# Altium schematic symbol library Analog Devices Amplifiers and Linear Comparators.SchLib: 160 symbols (part 9 of 9)
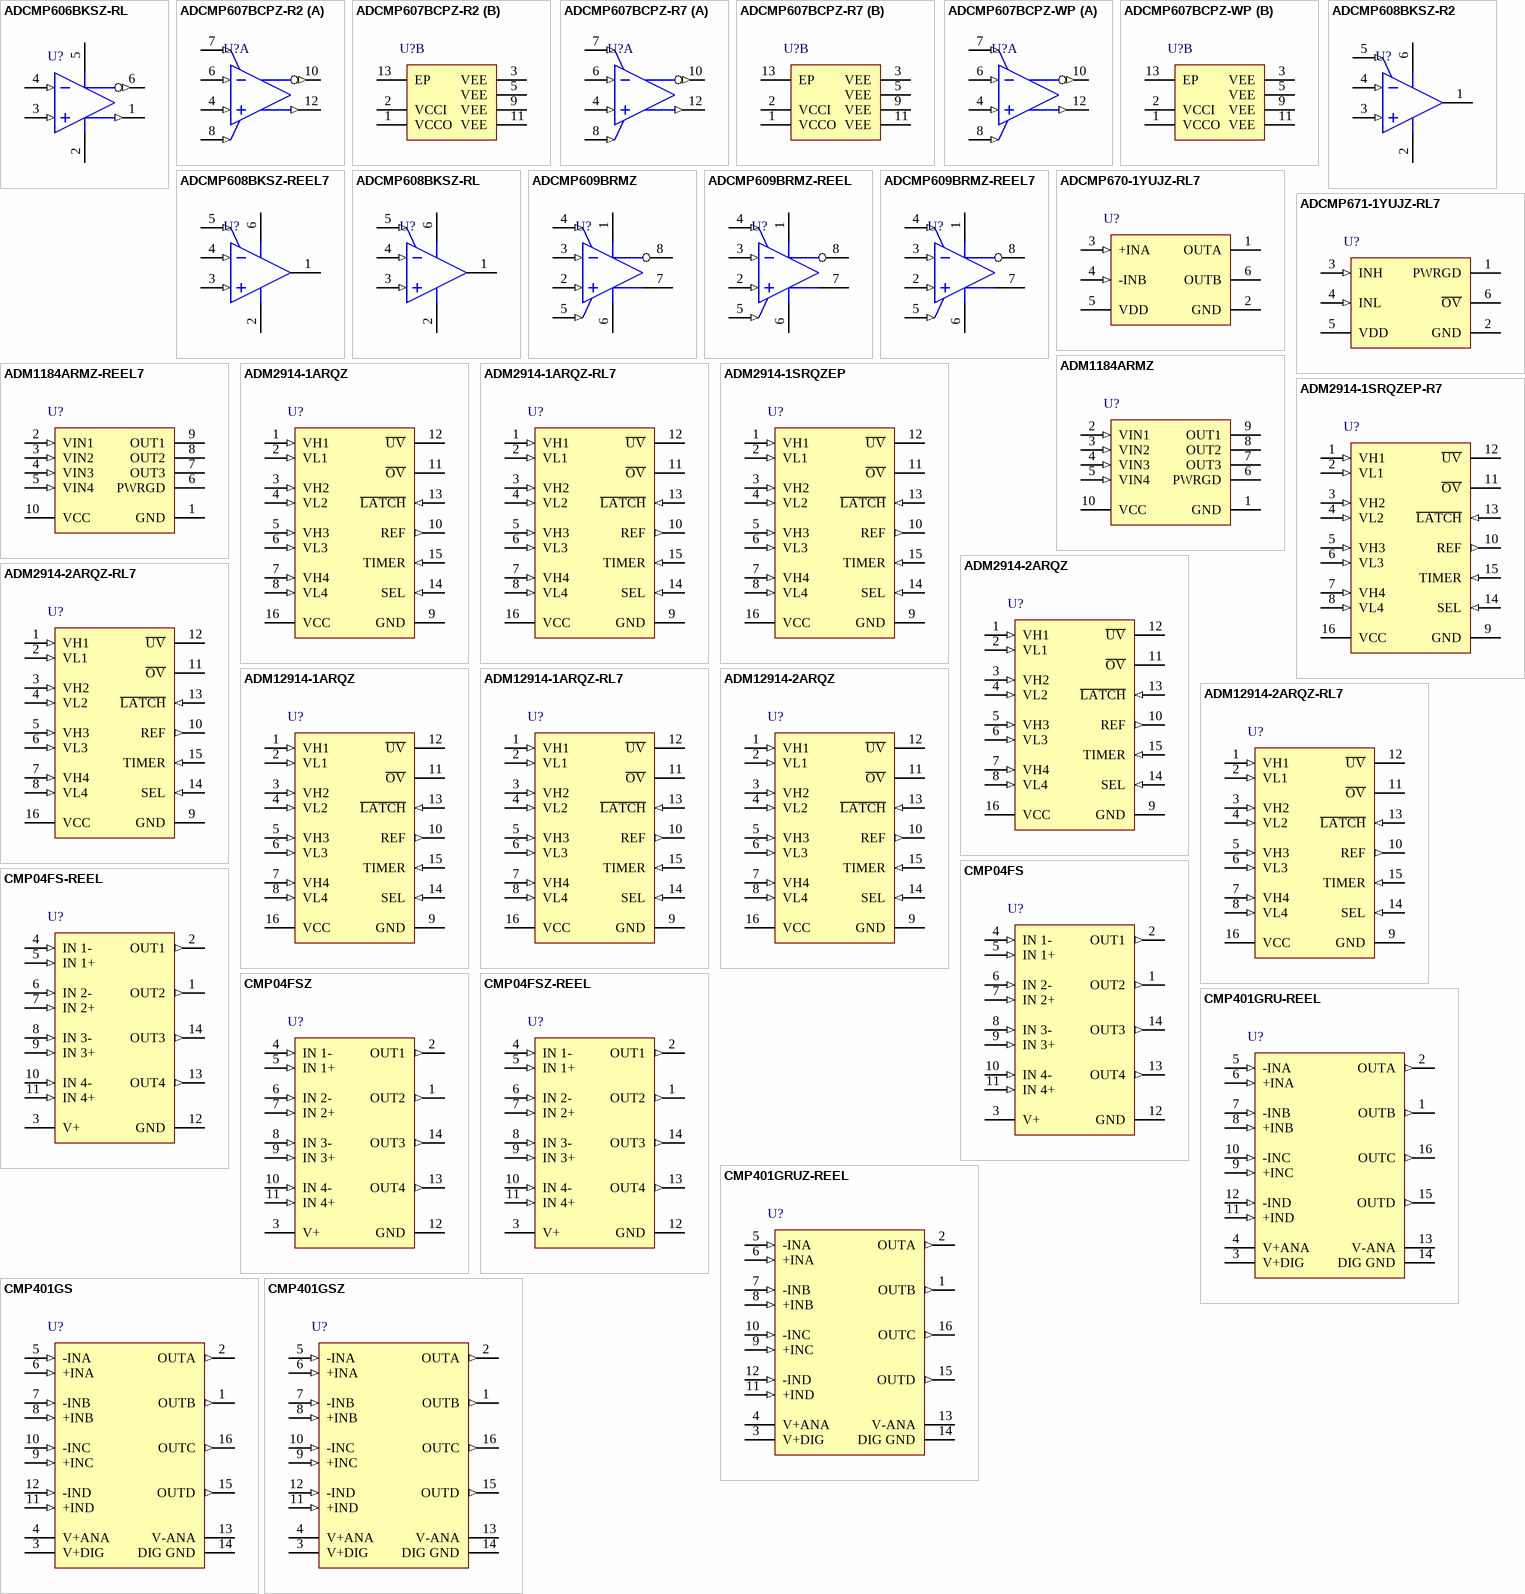
[diagram p15: symbols ADCMP606BKSZ-RL to CMP401GSZ]

## ADM2914-2ARQZ
designator U?
Quad UV / OV Positive / Negative Voltage Supervisor, 125 ns Delay, Industrial, 16-pin SOP (RQ-16), Tube; Manufacturer: Analog Devices; PartNumber: ADM2914-2ARQZ; Input Range (V): 0 to VCC; Internal Reference: Yes; Supply Current: 62uA; Voltage Supply (V): 2.3 to Shunt; DatasheetVersion: Rev. B; PackageVersion: Aug-05; PackageReference: RQ-16; PackageDescription: 16-Pin Shrink Small Outline Package, Body 4.9 x 3.9 mm, Pitch 0.64 mm; Supplier 1: Digi-Key; Supplier Part Number 1: ADM2914-2ARQZ-ND; Supplier 2: Farnell; Supplier Part Number 2: 2376989; Supplier 3: Farnell; Supplier Part Number 3: 1761013; Supplier 4: Mouser; Supplier Part Number 4: 584-ADM2914-2ARQZ; Packing: Tube; Mounting Technology: Surface Mount; Code_JEDEC: MO-137-AB; ComponentLink1Description: Manufacturer URL; ComponentLink1URL: http://www.analog.com/en/index.html; ComponentLink2Description: Datasheet; ComponentLink2URL: http://www.analog.com/static/imported-files/data_sheets/ADM2914.pdf; ComponentLink3Description: Package Specification; ComponentLink3URL: http://www.analog.com/static/imported-files/packages/5595549651201762937RQ_16.pdf; ComponentLink4Description: URL Link1; ComponentLink4URL: Product URL:http://www.analog.com/en/special-linear-functions/comparators/adm2914/products/product.html
footprint ADI-RQ-16_N (SOP, 16-Leads, Body 4.9x3.9mm, Pitch 0.64mm, IPC Medium Density)
footprint ADI-RQ-16_L (SOP, 16-Leads, Body 4.9x3.9mm, Pitch 0.64mm, IPC High Density)
footprint ADI-RQ-16_M (SOP, 16-Leads, Body 4.9x3.9mm, Pitch 0.64mm, IPC Low Density)
pins: 1 VH1 (in) "Voltage High Input 1. If the voltage monitored by VH1 or VH2 drops below 0.5 V, an undervoltage condition is detected. Connect to VCC when not in use.", 2 VL1 (in) "Voltage Low Input 1. If the voltage monitored by VL1 or VL2 rises above 0.5 V, an overvoltage condition is detected. Tie to GND when not in use.", 3 VH2 (in) "Voltage High Input 2. If the voltage monitored by VH1 or VH2 drops below 0.5 V, an undervoltage condition is detected. Connect to VCC when not in use.", 4 VL2 (in) "Voltage Low Input 2. If the voltage monitored by VL1 or VL2 rises above 0.5 V, an overvoltage condition is detected. Tie to GND when not in use.", 5 VH3 (in) "Voltage High Input 3. The polarity of these inputs is determined by the state of the SEL pin (see Table 5). When the monitored input is configured as a positive voltage and the voltage monitored by VH3 or VH4 drops below 0.5 (See Datasheet)", 6 VL3 (in) "Voltage Low Input 3. The polarity of these inputs is determined by the state of the SEL pin (see Table 5). When the monitored input is configured as a positive voltage and the voltage monitored by VL3 or VL4 rises above 0.5 (See Datasheet)", 7 VH4 (in) "Voltage High Input 4. The polarity of these inputs is determined by the state of the SEL pin (see Table 5). When the monitored input is configured as a positive voltage and the voltage monitored by VH3 or VH4 drops below 0.5 (See Datasheet)", 8 VL4 (in) "Voltage Low Input 4. The polarity of these inputs is determined by the state of the SEL pin (see Table 5). When the monitored input is configured as a positive voltage and the voltage monitored by VL3 or VL4 rises above 0.5 (See Datasheet)", 9 GND (power) "Device Ground.", 10 REF (out) "Buffered Reference Output. This pin is a 1 V reference that is used as an offset when monitoring negative voltages. This pin can source or sink 1 mA, and drive loads up to 1 nF. Larger capacitive loads may lead to (See Datasheet)", 11 ~{OV} (oc) "Overvoltage Reset Output. O\V\ is asserted low if a negative polarity input voltage drops below its associated threshold or if a positive polarity input voltage exceeds its threshold. The ADM2914-1 allows O\V\ to be latched (See Datasheet)", 12 ~{UV} (oc) "Undervoltage Reset Output. U\V\ is asserted low if a negative polarity input voltage exceeds its associated threshold or if a positive polarity input voltage drops below its threshold. U\V\ is held low for an adjustable (See Datasheet)", 13 ~{LATCH} (in) "O\V\ Latch Bypass Input/Clear Pin. When pulled high, the O\V\ latch is cleared. When held high, the O\V\output has the same delay and output characteristics as the U\V\ output. When pulled low, the O\V\ output is latched (See Datasheet)", 14 SEL (in) "Input Polarity Select. This three-state input pin allows the polarity of VH3, VL3, VH4, and VL4 to be configured. Connect to VCC or GND, or leave open to select one of three possible input polarity configurations (see Table (See Datasheet)", 15 TIMER (in) "Adjustable Reset Delay Timer. Connect an external capacitor to the TIMER pin to program the reset timeout delay. Refer to Figure 15 in the Typical Performance Characteristics section. Connect this pin to VCC to bypass the (See Datasheet)", 16 VCC (power) "Supply Voltage. VCC operates as a direct supply for voltages up to 6 V. For voltages greater than 6 V, it operates as a shunt regulator. A dropper resistor must be used in this configuration to limit the current to less than (See Datasheet)"

## ADM2914-2ARQZ-RL7
designator U?
Quad UV / OV Positive / Negative Voltage Supervisor, 125 ns Delay, Industrial, 16-pin SOP (RQ-16), Reel; Manufacturer: Analog Devices; PartNumber: ADM2914-2ARQZ-RL7; Input Range (V): 0 to VCC; Internal Reference: Yes; Supply Current: 62uA; Voltage Supply (V): 2.3 to Shunt; DatasheetVersion: Rev. B; PackageVersion: Aug-05; PackageReference: RQ-16; PackageDescription: 16-Pin Shrink Small Outline Package, Body 4.9 x 3.9 mm, Pitch 0.64 mm; Supplier 1: Digi-Key; Supplier Part Number 1: ADM2914-2ARQZ-RL7-ND; Supplier 2: Mouser; Supplier Part Number 2: 584-ADM2914-2ARQZ-R7; Packing: Reel; Mounting Technology: Surface Mount; Code_JEDEC: MO-137-AB; ComponentLink1Description: Manufacturer URL; ComponentLink1URL: http://www.analog.com/en/index.html; ComponentLink2Description: Datasheet; ComponentLink2URL: http://www.analog.com/static/imported-files/data_sheets/ADM2914.pdf; ComponentLink3Description: Package Specification; ComponentLink3URL: http://www.analog.com/static/imported-files/packages/5595549651201762937RQ_16.pdf; ComponentLink4Description: URL Link1; ComponentLink4URL: Product URL:http://www.analog.com/en/special-linear-functions/comparators/adm2914/products/product.html
footprint ADI-RQ-16_N (SOP, 16-Leads, Body 4.9x3.9mm, Pitch 0.64mm, IPC Medium Density)
footprint ADI-RQ-16_L (SOP, 16-Leads, Body 4.9x3.9mm, Pitch 0.64mm, IPC High Density)
footprint ADI-RQ-16_M (SOP, 16-Leads, Body 4.9x3.9mm, Pitch 0.64mm, IPC Low Density)
pins: 1 VH1 (in) "Voltage High Input 1. If the voltage monitored by VH1 or VH2 drops below 0.5 V, an undervoltage condition is detected. Connect to VCC when not in use.", 2 VL1 (in) "Voltage Low Input 1. If the voltage monitored by VL1 or VL2 rises above 0.5 V, an overvoltage condition is detected. Tie to GND when not in use.", 3 VH2 (in) "Voltage High Input 2. If the voltage monitored by VH1 or VH2 drops below 0.5 V, an undervoltage condition is detected. Connect to VCC when not in use.", 4 VL2 (in) "Voltage Low Input 2. If the voltage monitored by VL1 or VL2 rises above 0.5 V, an overvoltage condition is detected. Tie to GND when not in use.", 5 VH3 (in) "Voltage High Input 3. The polarity of these inputs is determined by the state of the SEL pin (see Table 5). When the monitored input is configured as a positive voltage and the voltage monitored by VH3 or VH4 drops below 0.5 (See Datasheet)", 6 VL3 (in) "Voltage Low Input 3. The polarity of these inputs is determined by the state of the SEL pin (see Table 5). When the monitored input is configured as a positive voltage and the voltage monitored by VL3 or VL4 rises above 0.5 (See Datasheet)", 7 VH4 (in) "Voltage High Input 4. The polarity of these inputs is determined by the state of the SEL pin (see Table 5). When the monitored input is configured as a positive voltage and the voltage monitored by VH3 or VH4 drops below 0.5 (See Datasheet)", 8 VL4 (in) "Voltage Low Input 4. The polarity of these inputs is determined by the state of the SEL pin (see Table 5). When the monitored input is configured as a positive voltage and the voltage monitored by VL3 or VL4 rises above 0.5 (See Datasheet)", 9 GND (power) "Device Ground.", 10 REF (out) "Buffered Reference Output. This pin is a 1 V reference that is used as an offset when monitoring negative voltages. This pin can source or sink 1 mA, and drive loads up to 1 nF. Larger capacitive loads may lead to (See Datasheet)", 11 ~{OV} (oc) "Overvoltage Reset Output. O\V\ is asserted low if a negative polarity input voltage drops below its associated threshold or if a positive polarity input voltage exceeds its threshold. The ADM2914-1 allows O\V\ to be latched (See Datasheet)", 12 ~{UV} (oc) "Undervoltage Reset Output. U\V\ is asserted low if a negative polarity input voltage exceeds its associated threshold or if a positive polarity input voltage drops below its threshold. U\V\ is held low for an adjustable (See Datasheet)", 13 ~{LATCH} (in) "O\V\ Latch Bypass Input/Clear Pin. When pulled high, the O\V\ latch is cleared. When held high, the O\V\output has the same delay and output characteristics as the U\V\ output. When pulled low, the O\V\ output is latched (See Datasheet)", 14 SEL (in) "Input Polarity Select. This three-state input pin allows the polarity of VH3, VL3, VH4, and VL4 to be configured. Connect to VCC or GND, or leave open to select one of three possible input polarity configurations (see Table (See Datasheet)", 15 TIMER (in) "Adjustable Reset Delay Timer. Connect an external capacitor to the TIMER pin to program the reset timeout delay. Refer to Figure 15 in the Typical Performance Characteristics section. Connect this pin to VCC to bypass the (See Datasheet)", 16 VCC (power) "Supply Voltage. VCC operates as a direct supply for voltages up to 6 V. For voltages greater than 6 V, it operates as a shunt regulator. A dropper resistor must be used in this configuration to limit the current to less than (See Datasheet)"

## ADM12914-1ARQZ
designator U?
+ / - 0.8% Accurate Quad UV / OV Positive / Negative Voltage Supervisor, 125 ns Delay, Industrial, 16-pin SOP (RQ-16), Tube; Manufacturer: Analog Devices; PartNumber: ADM12914-1ARQZ; Internal Reference: Yes; Supply Current: 62uA; Voltage Supply (V): 2.3 to Shunt; DatasheetVersion: Rev. C; PackageVersion: Aug-05; PackageReference: RQ-16; PackageDescription: 16-Pin Shrink Small Outline Package, Body 4.9 x 3.9 mm, Pitch 0.64 mm; Supplier 1: Digi-Key; Supplier Part Number 1: ADM12914-1ARQZ-ND; Supplier 2: Mouser; Supplier Part Number 2: 584-ADM12914-1ARQZ; Packing: Tube; Mounting Technology: Surface Mount; Code_JEDEC: MO-137-AB; ComponentLink1Description: Manufacturer URL; ComponentLink1URL: http://www.analog.com/en/index.html; ComponentLink2Description: Datasheet; ComponentLink2URL: http://www.analog.com/static/imported-files/data_sheets/ADM12914.pdf; ComponentLink3Description: Package Specification; ComponentLink3URL: http://www.analog.com/static/imported-files/packages/5595549651201762937RQ_16.pdf; ComponentLink4Description: URL Link1; ComponentLink4URL: Product URL:http://www.analog.com/en/special-linear-functions/comparators/adm12914/products/product.html
footprint ADI-RQ-16_N (SOP, 16-Leads, Body 4.9x3.9mm, Pitch 0.64mm, IPC Medium Density)
footprint ADI-RQ-16_L (SOP, 16-Leads, Body 4.9x3.9mm, Pitch 0.64mm, IPC High Density)
footprint ADI-RQ-16_M (SOP, 16-Leads, Body 4.9x3.9mm, Pitch 0.64mm, IPC Low Density)
pins: 1 VH1 (in) "Voltage High Input 1. If the voltage monitored by VH1 or VH2 drops below 0.5 V, an undervoltage condition is detected. Connect to VCC when not in use.", 2 VL1 (in) "Voltage Low Input 1. If the voltage monitored by VL1 or VL2 rises above 0.5 V, an overvoltage condition is detected. Tie to GND when not in use.", 3 VH2 (in) "Voltage High Input 2. If the voltage monitored by VH1 or VH2 drops below 0.5 V, an undervoltage condition is detected. Connect to VCC when not in use.", 4 VL2 (in) "Voltage Low Input 2. If the voltage monitored by VL1 or VL2 rises above 0.5 V, an overvoltage condition is detected. Tie to GND when not in use.", 5 VH3 (in) "Voltage High Input 3. The polarity of these inputs is determined by the state of the SEL pin (see Table 5). When the monitored input is configured as a positive voltage and the voltage monitored by VH3 and VH4 drops below 0.(See Datasheet)", 6 VL3 (in) "Voltage Low Input 3. The polarity of these inputs is determined by the state of the SEL pin (see Table 5). When the monitored input is configured as a positive voltage and the voltage monitored by VL3 or VL4 rises above 0.5 (See Datasheet)", 7 VH4 (in) "Voltage High Input 4. The polarity of these inputs is determined by the state of the SEL pin (see Table 5). When the monitored input is configured as a positive voltage and the voltage monitored by VH3 and VH4 drops below 0.(See Datasheet)", 8 VL4 (in) "Voltage Low Input 4. The polarity of these inputs is determined by the state of the SEL pin (see Table 5). When the monitored input is configured as a positive voltage and the voltage monitored by VL3 or VL4 rises above 0.5 (See Datasheet)", 9 GND (power) "Device Ground.", 10 REF (out) "Buffered Reference Output. This pin is a 1 V reference that is used as an offset when monitoring negative voltages. This pin can source or sink 1 mA, and drive loads up to 1 nF. Larger capacitive loads may lead to (See Datasheet)", 11 ~{OV} (oc) "Overvoltage Reset Output. O\V\ is asserted low if a negative polarity input voltage drops below its associated threshold or if a positive polarity input voltage exceeds its threshold. The ADM12914-1 allows O\V\ to be latched (See Datasheet)", 12 ~{UV} (oc) "Undervoltage Reset Output. U\V\ is asserted low if a negative polarity input voltage exceeds its associated threshold or if a positive polarity input voltage drops below its threshold. U\V\ is held low for an adjustable (See Datasheet)", 13 ~{LATCH} (in) "O\V\ Latch Bypass Input/Clear Pin. When pulled high, the O\V\ latch is cleared. When held high, the O\V\ output has the same delay and output characteristics as the U\V\ output. When pulled low, the O\V\ output is latched (See Datasheet)", 14 SEL (in) "Input Polarity Select. This three-state input pin allows the polarity of VH3, VL3, VH4, and VL4 to be configured. Connect this pin to VCC or GND, or leave it open to select one of three possible input polarity configurations (See Datasheet)", 15 TIMER (in) "Adjustable Reset Delay Timer. Connect an external capacitor to the TIMER pin to program the reset timeout delay. Refer to Figure 15 in the Typical Performance Characteristics section. Connect this pin to VCC to bypass the (See Datasheet)", 16 VCC (power) "Supply Voltage. VCC operates as a direct supply for voltages up to 6 V. For voltages greater than 6 V, it operates as a shunt regulator. A dropper resistor must be used in this configuration to limit the current to less than (See Datasheet)"

## ADM12914-1ARQZ-RL7
designator U?
+ / - 0.8% Accurate Quad UV / OV Positive / Negative Voltage Supervisor, 125 ns Delay, Industrial, 16-pin SOP (RQ-16), Reel; Manufacturer: Analog Devices; PartNumber: ADM12914-1ARQZ-RL7; Internal Reference: Yes; Supply Current: 62uA; Voltage Supply (V): 2.3 to Shunt; DatasheetVersion: Rev. C; PackageVersion: Aug-05; PackageReference: RQ-16; PackageDescription: 16-Pin Shrink Small Outline Package, Body 4.9 x 3.9 mm, Pitch 0.64 mm; Supplier 1: Digi-Key; Supplier Part Number 1: ADM12914-1ARQZ-RL7-ND; Supplier 2: Mouser; Supplier Part Number 2: 584-ADM12914-1ARQZR7; Packing: Reel; Mounting Technology: Surface Mount; Code_JEDEC: MO-137-AB; ComponentLink1Description: Manufacturer URL; ComponentLink1URL: http://www.analog.com/en/index.html; ComponentLink2Description: Datasheet; ComponentLink2URL: http://www.analog.com/static/imported-files/data_sheets/ADM12914.pdf; ComponentLink3Description: Package Specification; ComponentLink3URL: http://www.analog.com/static/imported-files/packages/5595549651201762937RQ_16.pdf; ComponentLink4Description: URL Link1; ComponentLink4URL: Product URL:http://www.analog.com/en/special-linear-functions/comparators/adm12914/products/product.html
footprint ADI-RQ-16_N (SOP, 16-Leads, Body 4.9x3.9mm, Pitch 0.64mm, IPC Medium Density)
footprint ADI-RQ-16_L (SOP, 16-Leads, Body 4.9x3.9mm, Pitch 0.64mm, IPC High Density)
footprint ADI-RQ-16_M (SOP, 16-Leads, Body 4.9x3.9mm, Pitch 0.64mm, IPC Low Density)
pins: 1 VH1 (in) "Voltage High Input 1. If the voltage monitored by VH1 or VH2 drops below 0.5 V, an undervoltage condition is detected. Connect to VCC when not in use.", 2 VL1 (in) "Voltage Low Input 1. If the voltage monitored by VL1 or VL2 rises above 0.5 V, an overvoltage condition is detected. Tie to GND when not in use.", 3 VH2 (in) "Voltage High Input 2. If the voltage monitored by VH1 or VH2 drops below 0.5 V, an undervoltage condition is detected. Connect to VCC when not in use.", 4 VL2 (in) "Voltage Low Input 2. If the voltage monitored by VL1 or VL2 rises above 0.5 V, an overvoltage condition is detected. Tie to GND when not in use.", 5 VH3 (in) "Voltage High Input 3. The polarity of these inputs is determined by the state of the SEL pin (see Table 5). When the monitored input is configured as a positive voltage and the voltage monitored by VH3 and VH4 drops below 0.(See Datasheet)", 6 VL3 (in) "Voltage Low Input 3. The polarity of these inputs is determined by the state of the SEL pin (see Table 5). When the monitored input is configured as a positive voltage and the voltage monitored by VL3 or VL4 rises above 0.5 (See Datasheet)", 7 VH4 (in) "Voltage High Input 4. The polarity of these inputs is determined by the state of the SEL pin (see Table 5). When the monitored input is configured as a positive voltage and the voltage monitored by VH3 and VH4 drops below 0.(See Datasheet)", 8 VL4 (in) "Voltage Low Input 4. The polarity of these inputs is determined by the state of the SEL pin (see Table 5). When the monitored input is configured as a positive voltage and the voltage monitored by VL3 or VL4 rises above 0.5 (See Datasheet)", 9 GND (power) "Device Ground.", 10 REF (out) "Buffered Reference Output. This pin is a 1 V reference that is used as an offset when monitoring negative voltages. This pin can source or sink 1 mA, and drive loads up to 1 nF. Larger capacitive loads may lead to (See Datasheet)", 11 ~{OV} (oc) "Overvoltage Reset Output. O\V\ is asserted low if a negative polarity input voltage drops below its associated threshold or if a positive polarity input voltage exceeds its threshold. The ADM12914-1 allows O\V\ to be latched (See Datasheet)", 12 ~{UV} (oc) "Undervoltage Reset Output. U\V\ is asserted low if a negative polarity input voltage exceeds its associated threshold or if a positive polarity input voltage drops below its threshold. U\V\ is held low for an adjustable (See Datasheet)", 13 ~{LATCH} (in) "O\V\ Latch Bypass Input/Clear Pin. When pulled high, the O\V\ latch is cleared. When held high, the O\V\ output has the same delay and output characteristics as the U\V\ output. When pulled low, the O\V\ output is latched (See Datasheet)", 14 SEL (in) "Input Polarity Select. This three-state input pin allows the polarity of VH3, VL3, VH4, and VL4 to be configured. Connect this pin to VCC or GND, or leave it open to select one of three possible input polarity configurations (See Datasheet)", 15 TIMER (in) "Adjustable Reset Delay Timer. Connect an external capacitor to the TIMER pin to program the reset timeout delay. Refer to Figure 15 in the Typical Performance Characteristics section. Connect this pin to VCC to bypass the (See Datasheet)", 16 VCC (power) "Supply Voltage. VCC operates as a direct supply for voltages up to 6 V. For voltages greater than 6 V, it operates as a shunt regulator. A dropper resistor must be used in this configuration to limit the current to less than (See Datasheet)"

## ADM12914-2ARQZ
designator U?
+ / - 0.8% Accurate Quad UV / OV Positive / Negative Voltage Supervisor, 125 ns Delay, Industrial, 16-pin SOP (RQ-16), Tube; Manufacturer: Analog Devices; PartNumber: ADM12914-2ARQZ; Internal Reference: Yes; Supply Current: 62uA; Voltage Supply (V): 2.3 to Shunt; DatasheetVersion: Rev. C; PackageVersion: Aug-05; PackageReference: RQ-16; PackageDescription: 16-Pin Shrink Small Outline Package, Body 4.9 x 3.9 mm, Pitch 0.64 mm; Supplier 1: Digi-Key; Supplier Part Number 1: ADM12914-2ARQZ-ND; Supplier 2: Farnell; Supplier Part Number 2: 2312784; Supplier 3: Mouser; Supplier Part Number 3: 584-ADM12914-2ARQZ; Packing: Tube; Mounting Technology: Surface Mount; Code_JEDEC: MO-137-AB; ComponentLink1Description: Manufacturer URL; ComponentLink1URL: http://www.analog.com/en/index.html; ComponentLink2Description: Datasheet; ComponentLink2URL: http://www.analog.com/static/imported-files/data_sheets/ADM12914.pdf; ComponentLink3Description: Package Specification; ComponentLink3URL: http://www.analog.com/static/imported-files/packages/5595549651201762937RQ_16.pdf; ComponentLink4Description: URL Link1; ComponentLink4URL: Product URL:http://www.analog.com/en/special-linear-functions/comparators/adm12914/products/product.html
footprint ADI-RQ-16_N (SOP, 16-Leads, Body 4.9x3.9mm, Pitch 0.64mm, IPC Medium Density)
footprint ADI-RQ-16_L (SOP, 16-Leads, Body 4.9x3.9mm, Pitch 0.64mm, IPC High Density)
footprint ADI-RQ-16_M (SOP, 16-Leads, Body 4.9x3.9mm, Pitch 0.64mm, IPC Low Density)
pins: 1 VH1 (in) "Voltage High Input 1. If the voltage monitored by VH1 or VH2 drops below 0.5 V, an undervoltage condition is detected. Connect to VCC when not in use.", 2 VL1 (in) "Voltage Low Input 1. If the voltage monitored by VL1 or VL2 rises above 0.5 V, an overvoltage condition is detected. Tie to GND when not in use.", 3 VH2 (in) "Voltage High Input 2. If the voltage monitored by VH1 or VH2 drops below 0.5 V, an undervoltage condition is detected. Connect to VCC when not in use.", 4 VL2 (in) "Voltage Low Input 2. If the voltage monitored by VL1 or VL2 rises above 0.5 V, an overvoltage condition is detected. Tie to GND when not in use.", 5 VH3 (in) "Voltage High Input 3. The polarity of these inputs is determined by the state of the SEL pin (see Table 5). When the monitored input is configured as a positive voltage and the voltage monitored by VH3 and VH4 drops below 0.(See Datasheet)", 6 VL3 (in) "Voltage Low Input 3. The polarity of these inputs is determined by the state of the SEL pin (see Table 5). When the monitored input is configured as a positive voltage and the voltage monitored by VL3 or VL4 rises above 0.5 (See Datasheet)", 7 VH4 (in) "Voltage High Input 4. The polarity of these inputs is determined by the state of the SEL pin (see Table 5). When the monitored input is configured as a positive voltage and the voltage monitored by VH3 and VH4 drops below 0.(See Datasheet)", 8 VL4 (in) "Voltage Low Input 4. The polarity of these inputs is determined by the state of the SEL pin (see Table 5). When the monitored input is configured as a positive voltage and the voltage monitored by VL3 or VL4 rises above 0.5 (See Datasheet)", 9 GND (power) "Device Ground.", 10 REF (out) "Buffered Reference Output. This pin is a 1 V reference that is used as an offset when monitoring negative voltages. This pin can source or sink 1 mA, and drive loads up to 1 nF. Larger capacitive loads may lead to (See Datasheet)", 11 ~{OV} (oc) "Overvoltage Reset Output. O\V\ is asserted low if a negative polarity input voltage drops below its associated threshold or if a positive polarity input voltage exceeds its threshold. The ADM12914-1 allows O\V\ to be latched (See Datasheet)", 12 ~{UV} (oc) "Undervoltage Reset Output. U\V\ is asserted low if a negative polarity input voltage exceeds its associated threshold or if a positive polarity input voltage drops below its threshold. U\V\ is held low for an adjustable (See Datasheet)", 13 ~{LATCH} (in) "O\V\ Latch Bypass Input/Clear Pin. When pulled high, the O\V\ latch is cleared. When held high, the O\V\ output has the same delay and output characteristics as the U\V\ output. When pulled low, the O\V\ output is latched (See Datasheet)", 14 SEL (in) "Input Polarity Select. This three-state input pin allows the polarity of VH3, VL3, VH4, and VL4 to be configured. Connect this pin to VCC or GND, or leave it open to select one of three possible input polarity configurations (See Datasheet)", 15 TIMER (in) "Adjustable Reset Delay Timer. Connect an external capacitor to the TIMER pin to program the reset timeout delay. Refer to Figure 15 in the Typical Performance Characteristics section. Connect this pin to VCC to bypass the (See Datasheet)", 16 VCC (power) "Supply Voltage. VCC operates as a direct supply for voltages up to 6 V. For voltages greater than 6 V, it operates as a shunt regulator. A dropper resistor must be used in this configuration to limit the current to less than (See Datasheet)"

## ADM12914-2ARQZ-RL7
designator U?
+ / - 0.8% Accurate Quad UV / OV Positive / Negative Voltage Supervisor, 125 ns Delay, Industrial, 16-pin SOP (RQ-16), Reel; Manufacturer: Analog Devices; PartNumber: ADM12914-2ARQZ-RL7; Internal Reference: Yes; Supply Current: 62uA; Voltage Supply (V): 2.3 to Shunt; DatasheetVersion: Rev. C; PackageVersion: Aug-05; PackageReference: RQ-16; PackageDescription: 16-Pin Shrink Small Outline Package, Body 4.9 x 3.9 mm, Pitch 0.64 mm; Supplier 1: Mouser; Supplier Part Number 1: N/A; Packing: Reel; Mounting Technology: Surface Mount; Code_JEDEC: MO-137-AB; ComponentLink1Description: Manufacturer URL; ComponentLink1URL: http://www.analog.com/en/index.html; ComponentLink2Description: Datasheet; ComponentLink2URL: http://www.analog.com/static/imported-files/data_sheets/ADM12914.pdf; ComponentLink3Description: Package Specification; ComponentLink3URL: http://www.analog.com/static/imported-files/packages/5595549651201762937RQ_16.pdf; ComponentLink4Description: URL Link1; ComponentLink4URL: Product URL:http://www.analog.com/en/special-linear-functions/comparators/adm12914/products/product.html
footprint ADI-RQ-16_N (SOP, 16-Leads, Body 4.9x3.9mm, Pitch 0.64mm, IPC Medium Density)
footprint ADI-RQ-16_L (SOP, 16-Leads, Body 4.9x3.9mm, Pitch 0.64mm, IPC High Density)
footprint ADI-RQ-16_M (SOP, 16-Leads, Body 4.9x3.9mm, Pitch 0.64mm, IPC Low Density)
pins: 1 VH1 (in) "Voltage High Input 1. If the voltage monitored by VH1 or VH2 drops below 0.5 V, an undervoltage condition is detected. Connect to VCC when not in use.", 2 VL1 (in) "Voltage Low Input 1. If the voltage monitored by VL1 or VL2 rises above 0.5 V, an overvoltage condition is detected. Tie to GND when not in use.", 3 VH2 (in) "Voltage High Input 2. If the voltage monitored by VH1 or VH2 drops below 0.5 V, an undervoltage condition is detected. Connect to VCC when not in use.", 4 VL2 (in) "Voltage Low Input 2. If the voltage monitored by VL1 or VL2 rises above 0.5 V, an overvoltage condition is detected. Tie to GND when not in use.", 5 VH3 (in) "Voltage High Input 3. The polarity of these inputs is determined by the state of the SEL pin (see Table 5). When the monitored input is configured as a positive voltage and the voltage monitored by VH3 and VH4 drops below 0.(See Datasheet)", 6 VL3 (in) "Voltage Low Input 3. The polarity of these inputs is determined by the state of the SEL pin (see Table 5). When the monitored input is configured as a positive voltage and the voltage monitored by VL3 or VL4 rises above 0.5 (See Datasheet)", 7 VH4 (in) "Voltage High Input 4. The polarity of these inputs is determined by the state of the SEL pin (see Table 5). When the monitored input is configured as a positive voltage and the voltage monitored by VH3 and VH4 drops below 0.(See Datasheet)", 8 VL4 (in) "Voltage Low Input 4. The polarity of these inputs is determined by the state of the SEL pin (see Table 5). When the monitored input is configured as a positive voltage and the voltage monitored by VL3 or VL4 rises above 0.5 (See Datasheet)", 9 GND (power) "Device Ground.", 10 REF (out) "Buffered Reference Output. This pin is a 1 V reference that is used as an offset when monitoring negative voltages. This pin can source or sink 1 mA, and drive loads up to 1 nF. Larger capacitive loads may lead to (See Datasheet)", 11 ~{OV} (oc) "Overvoltage Reset Output. O\V\ is asserted low if a negative polarity input voltage drops below its associated threshold or if a positive polarity input voltage exceeds its threshold. The ADM12914-1 allows O\V\ to be latched (See Datasheet)", 12 ~{UV} (oc) "Undervoltage Reset Output. U\V\ is asserted low if a negative polarity input voltage exceeds its associated threshold or if a positive polarity input voltage drops below its threshold. U\V\ is held low for an adjustable (See Datasheet)", 13 ~{LATCH} (in) "O\V\ Latch Bypass Input/Clear Pin. When pulled high, the O\V\ latch is cleared. When held high, the O\V\ output has the same delay and output characteristics as the U\V\ output. When pulled low, the O\V\ output is latched (See Datasheet)", 14 SEL (in) "Input Polarity Select. This three-state input pin allows the polarity of VH3, VL3, VH4, and VL4 to be configured. Connect this pin to VCC or GND, or leave it open to select one of three possible input polarity configurations (See Datasheet)", 15 TIMER (in) "Adjustable Reset Delay Timer. Connect an external capacitor to the TIMER pin to program the reset timeout delay. Refer to Figure 15 in the Typical Performance Characteristics section. Connect this pin to VCC to bypass the (See Datasheet)", 16 VCC (power) "Supply Voltage. VCC operates as a direct supply for voltages up to 6 V. For voltages greater than 6 V, it operates as a shunt regulator. A dropper resistor must be used in this configuration to limit the current to less than (See Datasheet)"

## CMP04FS
designator U?
Quad Low Power, Precision Comparator, 3.3 to 36 V, 1.3 us Delay, Industrial, 14-pin SOIC (R-14), Tube; Manufacturer: Analog Devices; PartNumber: CMP04FS; Input Range (V): 0 to V+ -1.5; Supply Current: 800uA; DatasheetVersion: Rev. D; PackageVersion: 060606-A, 06/2006; PackageReference: R-14; PackageDescription: 14-Pin Standard Small Outline Package, Body 8.65 x 3.9 mm, Pitch 1.27 mm; Supplier 1: Digi-Key; Supplier Part Number 1: CMP04FS-ND; Supplier 2: Mouser; Supplier Part Number 2: 584-CMP04FS; Packing: Tube; Voltage Supply (V): 3.3 to 36; Mounting Technology: Surface Mount; Code_JEDEC: MS-012-AB; ComponentLink1Description: Manufacturer URL; ComponentLink1URL: http://www.analog.com/en/index.html; ComponentLink2Description: Datasheet; ComponentLink2URL: http://www.analog.com/static/imported-files/data_sheets/CMP04.pdf; ComponentLink3Description: Package Specification; ComponentLink3URL: http://www.analog.com/static/imported-files/packages/PKG_PDF/SOIC_Narrow%20(R)/R_14.pdf; ComponentLink4Description: URL Link1; ComponentLink4URL: Product URL:http://www.analog.com/en/special-linear-functions/comparators/cmp04/products/product.html
footprint ADI-R-14_N (SOIC, 14-Leads, Body 8.65x3.9mm, Pitch 1.27mm, IPC Medium Density)
footprint ADI-R-14_L (SOIC, 14-Leads, Body 8.65x3.9mm, Pitch 1.27mm, IPC High Density)
footprint ADI-R-14_M (SOIC, 14-Leads, Body 8.65x3.9mm, Pitch 1.27mm, IPC Low Density)
pins: 1 OUT2 (out), 2 OUT1 (out), 3 V+ (power), 4 IN 1- (in), 5 IN 1+ (in), 6 IN 2- (in), 7 IN 2+ (in), 8 IN 3- (in), 9 IN 3+ (in), 10 IN 4- (in), 11 IN 4+ (in), 12 GND (power), 13 OUT4 (out), 14 OUT3 (out)

## CMP04FS-REEL
designator U?
Quad Low Power, Precision Comparator, 3.3 to 36 V, 1.3 us Delay, Industrial, 14-pin SOIC (R-14), Reel; Manufacturer: Analog Devices; PartNumber: CMP04FS-REEL; Input Range (V): 0 to V+ -1.5; Supply Current: 800uA; DatasheetVersion: Rev. D; PackageVersion: 060606-A, 06/2006; PackageReference: R-14; PackageDescription: 14-Pin Standard Small Outline Package, Body 8.65 x 3.9 mm, Pitch 1.27 mm; Supplier 1: Digi-Key; Supplier Part Number 1: CMP04FS-REEL-ND; Supplier 2: Mouser; Supplier Part Number 2: 584-CMP04FS-R; Packing: Reel; Voltage Supply (V): 3.3 to 36; Mounting Technology: Surface Mount; Code_JEDEC: MS-012-AB; ComponentLink1Description: Manufacturer URL; ComponentLink1URL: http://www.analog.com/en/index.html; ComponentLink2Description: Datasheet; ComponentLink2URL: http://www.analog.com/static/imported-files/data_sheets/CMP04.pdf; ComponentLink3Description: Package Specification; ComponentLink3URL: http://www.analog.com/static/imported-files/packages/PKG_PDF/SOIC_Narrow%20(R)/R_14.pdf; ComponentLink4Description: URL Link1; ComponentLink4URL: Product URL:http://www.analog.com/en/special-linear-functions/comparators/cmp04/products/product.html
footprint ADI-R-14_N (SOIC, 14-Leads, Body 8.65x3.9mm, Pitch 1.27mm, IPC Medium Density)
footprint ADI-R-14_L (SOIC, 14-Leads, Body 8.65x3.9mm, Pitch 1.27mm, IPC High Density)
footprint ADI-R-14_M (SOIC, 14-Leads, Body 8.65x3.9mm, Pitch 1.27mm, IPC Low Density)
pins: 1 OUT2 (out), 2 OUT1 (out), 3 V+ (power), 4 IN 1- (in), 5 IN 1+ (in), 6 IN 2- (in), 7 IN 2+ (in), 8 IN 3- (in), 9 IN 3+ (in), 10 IN 4- (in), 11 IN 4+ (in), 12 GND (power), 13 OUT4 (out), 14 OUT3 (out)

## CMP04FSZ
designator U?
Quad Low Power, Precision Comparator, 3.3 to 36 V, 1.3 us Delay, Industrial, 14-pin SOIC (R-14), Tube; Manufacturer: Analog Devices; PartNumber: CMP04FSZ; Input Range (V): 0 to V+ -1.5; Supply Current: 800uA; DatasheetVersion: Rev. D; PackageVersion: 060606-A, 06/2006; PackageReference: R-14; PackageDescription: 14-Pin Standard Small Outline Package, Body 8.65 x 3.9 mm, Pitch 1.27 mm; Supplier 1: Digi-Key; Supplier Part Number 1: CMP04FSZ-ND; Supplier 2: Farnell; Supplier Part Number 2: 1439008; Supplier 3: Mouser; Supplier Part Number 3: 584-CMP04FSZ; Packing: Tube; Voltage Supply (V): 3.3 to 36; Mounting Technology: Surface Mount; Code_JEDEC: MS-012-AB; ComponentLink1Description: Manufacturer URL; ComponentLink1URL: http://www.analog.com/en/index.html; ComponentLink2Description: Datasheet; ComponentLink2URL: http://www.analog.com/static/imported-files/data_sheets/CMP04.pdf; ComponentLink3Description: Package Specification; ComponentLink3URL: http://www.analog.com/static/imported-files/packages/PKG_PDF/SOIC_Narrow%20(R)/R_14.pdf; ComponentLink4Description: URL Link1; ComponentLink4URL: Product URL:http://www.analog.com/en/special-linear-functions/comparators/cmp04/products/product.html
footprint ADI-R-14_N (SOIC, 14-Leads, Body 8.65x3.9mm, Pitch 1.27mm, IPC Medium Density)
footprint ADI-R-14_L (SOIC, 14-Leads, Body 8.65x3.9mm, Pitch 1.27mm, IPC High Density)
footprint ADI-R-14_M (SOIC, 14-Leads, Body 8.65x3.9mm, Pitch 1.27mm, IPC Low Density)
pins: 1 OUT2 (out), 2 OUT1 (out), 3 V+ (power), 4 IN 1- (in), 5 IN 1+ (in), 6 IN 2- (in), 7 IN 2+ (in), 8 IN 3- (in), 9 IN 3+ (in), 10 IN 4- (in), 11 IN 4+ (in), 12 GND (power), 13 OUT4 (out), 14 OUT3 (out)

## CMP04FSZ-REEL
designator U?
Quad Low Power, Precision Comparator, 3.3 to 36 V, 1.3 us Delay, Industrial, 14-pin SOIC (R-14), Reel; Manufacturer: Analog Devices; PartNumber: CMP04FSZ-REEL; Input Range (V): 0 to V+ -1.5; Supply Current: 800uA; DatasheetVersion: Rev. D; PackageVersion: 060606-A, 06/2006; PackageReference: R-14; PackageDescription: 14-Pin Standard Small Outline Package, Body 8.65 x 3.9 mm, Pitch 1.27 mm; Supplier 1: Digi-Key; Supplier Part Number 1: CMP04FSZ-REEL-ND; Supplier 2: Mouser; Supplier Part Number 2: 584-CMP04FSZ-R; Packing: Reel; Voltage Supply (V): 3.3 to 36; Mounting Technology: Surface Mount; Code_JEDEC: MS-012-AB; ComponentLink1Description: Manufacturer URL; ComponentLink1URL: http://www.analog.com/en/index.html; ComponentLink2Description: Datasheet; ComponentLink2URL: http://www.analog.com/static/imported-files/data_sheets/CMP04.pdf; ComponentLink3Description: Package Specification; ComponentLink3URL: http://www.analog.com/static/imported-files/packages/PKG_PDF/SOIC_Narrow%20(R)/R_14.pdf; ComponentLink4Description: URL Link1; ComponentLink4URL: Product URL:http://www.analog.com/en/special-linear-functions/comparators/cmp04/products/product.html
footprint ADI-R-14_N (SOIC, 14-Leads, Body 8.65x3.9mm, Pitch 1.27mm, IPC Medium Density)
footprint ADI-R-14_L (SOIC, 14-Leads, Body 8.65x3.9mm, Pitch 1.27mm, IPC High Density)
footprint ADI-R-14_M (SOIC, 14-Leads, Body 8.65x3.9mm, Pitch 1.27mm, IPC Low Density)
pins: 1 OUT2 (out), 2 OUT1 (out), 3 V+ (power), 4 IN 1- (in), 5 IN 1+ (in), 6 IN 2- (in), 7 IN 2+ (in), 8 IN 3- (in), 9 IN 3+ (in), 10 IN 4- (in), 11 IN 4+ (in), 12 GND (power), 13 OUT4 (out), 14 OUT3 (out)

## CMP401GRU-REEL
designator U?
Low Voltage Comparator, + / - 5 V, 23 ns Delay, Automotive, 16-pin SOP (RU-16), Reel; Manufacturer: Analog Devices; PartNumber: CMP401GRU-REEL; Input Range (V): -5.0 to +4.0; Total Power (mW): 110mW; Voltage Supply (V): +/- 5; DatasheetVersion: Rev. A; PackageVersion: Nov-02; PackageReference: RU-16; PackageDescription: 16-Pin Thin Shrink Small Outline Package, Body 5 x 4.4 mm, Pitch 0.65 mm; Supplier 1: Digi-Key; Supplier Part Number 1: CMP401GRU-REEL-ND; Supplier 2: Mouser; Supplier Part Number 2: N/A; Packing: Reel; Mounting Technology: Surface Mount; Code_JEDEC: MO-153AB; ComponentLink1Description: Manufacturer URL; ComponentLink1URL: http://www.analog.com/en/index.html; ComponentLink2Description: Datasheet; ComponentLink2URL: http://www.analog.com/static/imported-files/data_sheets/CMP401_402.pdf; ComponentLink3Description: Package Specification; ComponentLink3URL: http:/www.analog.com/static/imported-files/packages/36244347913743854010197452789RU16.pdf; ComponentLink4Description: URL Link1; ComponentLink4URL: Product URL:http://www.analog.com/en/special-linear-functions/comparators/cmp401/products/product.html
footprint ADI-RU-16_N (SOP, 16-Leads, Body 5x4.4mm, Pitch 0.65mm, IPC Medium Density)
footprint ADI-RU-16_L (SOP, 16-Leads, Body 5x4.4mm, Pitch 0.65mm, IPC High Density)
footprint ADI-RU-16_M (SOP, 16-Leads, Body 5x4.4mm, Pitch 0.65mm, IPC Low Density)
pins: 1 OUTB (out), 2 OUTA (out), 3 V+DIG (power), 4 V+ANA (power), 5 -INA (in), 6 +INA (in), 7 -INB (in), 8 +INB (in), 9 +INC (in), 10 -INC (in), 11 +IND (in), 12 -IND (in), 13 V-ANA (power), 14 DIG GND (power), 15 OUTD (out), 16 OUTC (out)

## CMP401GRUZ-REEL
designator U?
Low Voltage Comparator, + / - 5 V, 23 ns Delay, Automotive, 16-pin SOP (RU-16), Reel; Manufacturer: Analog Devices; PartNumber: CMP401GRUZ-REEL; Input Range (V): -5.0 to +4.0; Total Power (mW): 110mW; Voltage Supply (V): +/- 5; DatasheetVersion: Rev. A; PackageVersion: Nov-02; PackageReference: RU-16; PackageDescription: 16-Pin Thin Shrink Small Outline Package, Body 5 x 4.4 mm, Pitch 0.65 mm; Supplier 1: Digi-Key; Supplier Part Number 1: CMP401GRUZ-REELTR-ND; Supplier 2: Digi-Key; Supplier Part Number 2: CMP401GRUZ-REELCT-ND; Supplier 3: Digi-Key; Supplier Part Number 3: CMP401GRUZ-REELDKR-ND; Supplier 4: Farnell; Supplier Part Number 4: 2314118; Supplier 5: Mouser; Supplier Part Number 5: 584-CMP401GRUZ-R; Packing: Reel; Mounting Technology: Surface Mount; Code_JEDEC: MO-153AB; ComponentLink1Description: Manufacturer URL; ComponentLink1URL: http://www.analog.com/en/index.html; ComponentLink2Description: Datasheet; ComponentLink2URL: http://www.analog.com/static/imported-files/data_sheets/CMP401_402.pdf; ComponentLink3Description: Package Specification; ComponentLink3URL: http:/www.analog.com/static/imported-files/packages/36244347913743854010197452789RU16.pdf; ComponentLink4Description: URL Link1; ComponentLink4URL: Product URL:http://www.analog.com/en/special-linear-functions/comparators/cmp401/products/product.html
footprint ADI-RU-16_N (SOP, 16-Leads, Body 5x4.4mm, Pitch 0.65mm, IPC Medium Density)
footprint ADI-RU-16_L (SOP, 16-Leads, Body 5x4.4mm, Pitch 0.65mm, IPC High Density)
footprint ADI-RU-16_M (SOP, 16-Leads, Body 5x4.4mm, Pitch 0.65mm, IPC Low Density)
pins: 1 OUTB (out), 2 OUTA (out), 3 V+DIG (power), 4 V+ANA (power), 5 -INA (in), 6 +INA (in), 7 -INB (in), 8 +INB (in), 9 +INC (in), 10 -INC (in), 11 +IND (in), 12 -IND (in), 13 V-ANA (power), 14 DIG GND (power), 15 OUTD (out), 16 OUTC (out)

## CMP401GS
designator U?
Low Voltage Comparator, + / - 5 V, 23 ns Delay, Automotive, 16-pin SOIC (R-16), Tube; Manufacturer: Analog Devices; PartNumber: CMP401GS; Input Range (V): -5.0 to +4.0; Total Power (mW): 110mW; Voltage Supply (V): +/- 5; DatasheetVersion: Rev. A; PackageVersion: 060606-A, 06/2006; PackageReference: R-16; PackageDescription: 16-Pin Standard Small Outline Package, Body 9.9 x 3.9 mm, Pitch 1.27 mm; Supplier 1: Digi-Key; Supplier Part Number 1: CMP401GS-ND; Supplier 2: Mouser; Supplier Part Number 2: 584-CMP401GS; Packing: Tube; Mounting Technology: Surface Mount; Code_JEDEC: MS-012-AC; ComponentLink1Description: Manufacturer URL; ComponentLink1URL: http://www.analog.com/en/index.html; ComponentLink2Description: Datasheet; ComponentLink2URL: http://www.analog.com/static/imported-files/data_sheets/CMP401_402.pdf; ComponentLink3Description: Package Specification; ComponentLink3URL: http://www.analog.com/static/imported-files/packages/PKG_PDF/SOIC_Narrow%20(R)/R_16.pdf; ComponentLink4Description: URL Link1; ComponentLink4URL: Product URL:http://www.analog.com/en/special-linear-functions/comparators/cmp401/products/product.html
footprint ADI-R-16_N (SOIC, 16-Leads, Body 9.9x3.9mm, Pitch 1.27mm, IPC Medium Density)
footprint ADI-R-16_L (SOIC, 16-Leads, Body 9.9x3.9mm, Pitch 1.27mm, IPC High Density)
footprint ADI-R-16_M (SOIC, 16-Leads, Body 9.9x3.9mm, Pitch 1.27mm, IPC Low Density)
pins: 1 OUTB (out), 2 OUTA (out), 3 V+DIG (power), 4 V+ANA (power), 5 -INA (in), 6 +INA (in), 7 -INB (in), 8 +INB (in), 9 +INC (in), 10 -INC (in), 11 +IND (in), 12 -IND (in), 13 V-ANA (power), 14 DIG GND (power), 15 OUTD (out), 16 OUTC (out)

## CMP401GSZ
designator U?
Low Voltage Comparator, + / - 5 V, 23 ns Delay, Automotive, 16-pin SOIC (R-16), Tube; Manufacturer: Analog Devices; PartNumber: CMP401GSZ; Input Range (V): -5.0 to +4.0; Total Power (mW): 110mW; Voltage Supply (V): +/- 5; DatasheetVersion: Rev. A; PackageVersion: 060606-A, 06/2006; PackageReference: R-16; PackageDescription: 16-Pin Standard Small Outline Package, Body 9.9 x 3.9 mm, Pitch 1.27 mm; Supplier 1: Digi-Key; Supplier Part Number 1: CMP401GSZ-ND; Supplier 2: Farnell; Supplier Part Number 2: 2376814; Supplier 3: Farnell; Supplier Part Number 3: 1311368; Supplier 4: Mouser; Supplier Part Number 4: 584-CMP401GSZ; Packing: Tube; Mounting Technology: Surface Mount; Code_JEDEC: MS-012-AC; ComponentLink1Description: Manufacturer URL; ComponentLink1URL: http://www.analog.com/en/index.html; ComponentLink2Description: Datasheet; ComponentLink2URL: http://www.analog.com/static/imported-files/data_sheets/CMP401_402.pdf; ComponentLink3Description: Package Specification; ComponentLink3URL: http://www.analog.com/static/imported-files/packages/PKG_PDF/SOIC_Narrow%20(R)/R_16.pdf; ComponentLink4Description: URL Link1; ComponentLink4URL: Product URL:http://www.analog.com/en/special-linear-functions/comparators/cmp401/products/product.html
footprint ADI-R-16_N (SOIC, 16-Leads, Body 9.9x3.9mm, Pitch 1.27mm, IPC Medium Density)
footprint ADI-R-16_L (SOIC, 16-Leads, Body 9.9x3.9mm, Pitch 1.27mm, IPC High Density)
footprint ADI-R-16_M (SOIC, 16-Leads, Body 9.9x3.9mm, Pitch 1.27mm, IPC Low Density)
pins: 1 OUTB (out), 2 OUTA (out), 3 V+DIG (power), 4 V+ANA (power), 5 -INA (in), 6 +INA (in), 7 -INB (in), 8 +INB (in), 9 +INC (in), 10 -INC (in), 11 +IND (in), 12 -IND (in), 13 V-ANA (power), 14 DIG GND (power), 15 OUTD (out), 16 OUTC (out)

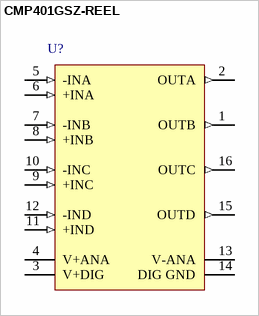
[diagram p7: symbol CMP401GSZ-REEL]

## CMP401GSZ-REEL
designator U?
Low Voltage Comparator, + / - 5 V, 23 ns Delay, Automotive, 16-pin SOIC (R-16), Reel; Manufacturer: Analog Devices; PartNumber: CMP401GSZ-REEL; Input Range (V): -5.0 to +4.0; Total Power (mW): 110mW; Voltage Supply (V): +/- 5; DatasheetVersion: Rev. A; PackageVersion: 060606-A, 06/2006; PackageReference: R-16; PackageDescription: 16-Pin Standard Small Outline Package, Body 9.9 x 3.9 mm, Pitch 1.27 mm; Supplier 1: Digi-Key; Supplier Part Number 1: CMP401GSZ-REEL-ND; Supplier 2: Mouser; Supplier Part Number 2: 584-CMP401GSZ-R; Packing: Reel; Mounting Technology: Surface Mount; Code_JEDEC: MS-012-AC; ComponentLink1Description: Manufacturer URL; ComponentLink1URL: http://www.analog.com/en/index.html; ComponentLink2Description: Datasheet; ComponentLink2URL: http://www.analog.com/static/imported-files/data_sheets/CMP401_402.pdf; ComponentLink3Description: Package Specification; ComponentLink3URL: http://www.analog.com/static/imported-files/packages/PKG_PDF/SOIC_Narrow%20(R)/R_16.pdf; ComponentLink4Description: URL Link1; ComponentLink4URL: Product URL:http://www.analog.com/en/special-linear-functions/comparators/cmp401/products/product.html
footprint ADI-R-16_N (SOIC, 16-Leads, Body 9.9x3.9mm, Pitch 1.27mm, IPC Medium Density)
footprint ADI-R-16_L (SOIC, 16-Leads, Body 9.9x3.9mm, Pitch 1.27mm, IPC High Density)
footprint ADI-R-16_M (SOIC, 16-Leads, Body 9.9x3.9mm, Pitch 1.27mm, IPC Low Density)
pins: 1 OUTB (out), 2 OUTA (out), 3 V+DIG (power), 4 V+ANA (power), 5 -INA (in), 6 +INA (in), 7 -INB (in), 8 +INB (in), 9 +INC (in), 10 -INC (in), 11 +IND (in), 12 -IND (in), 13 V-ANA (power), 14 DIG GND (power), 15 OUTD (out), 16 OUTC (out)